# EAGLE library part LMZM23600V3SILT (library LMZM23600V3SILT)
36-V, 0.5-A Step-Down DC/DC Power Module in 3.8-mm × 3-mm Package 10-uSiP -40 to 125
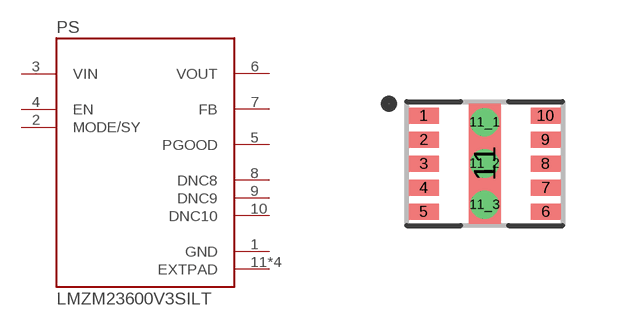
[diagram p0: symbol with the pads of CONV_LMZM23600V3SILT; footprint CONV_LMZM23600V3SILT]

Designator prefix PS

## LMZM23600V3SILT (Availability: Unavailable; Description: 36-V, 0.5-A Step-Down DC/DC Power Module in 3.8-mm × 3-mm Package 10-uSiP -40 to 125; MF: Texas Instruments; MP: LMZM23600V3SILT; Package: Module Texas Instruments; Price: None)  [CONV_LMZM23600V3SILT]
1  GND  pwr
2  MODE/SY  in
3  VIN  in
4  EN  in
5  PGOOD  out
6  VOUT  out
7  FB  in
8  DNC8  out
9  DNC9  out
10  DNC10  out
11  EXTPAD  pwr
11_1  EXTPAD  pwr
11_2  EXTPAD  pwr
11_3  EXTPAD  pwr

## Footprint CONV_LMZM23600V3SILT (pad centres in mm)
smd 0.75 x 0.4: 1 -1.525,1.2; 2 -1.525,0.6; 3 -1.525,0; 4 -1.525,-0.6; 5 -1.525,-1.2; 6 1.525,-1.2; 7 1.525,-0.6; 8 1.525,0; 9 1.525,0.6; 10 1.525,1.2
smd 0.8 x 3: 11 0,0
drill 0.2 pad 0.3: 11_1 0,1.03; 11_2 0,0; 11_3 0,-1.03